# EAGLE library part BM12B-NSHSS-TBT (library NSH)
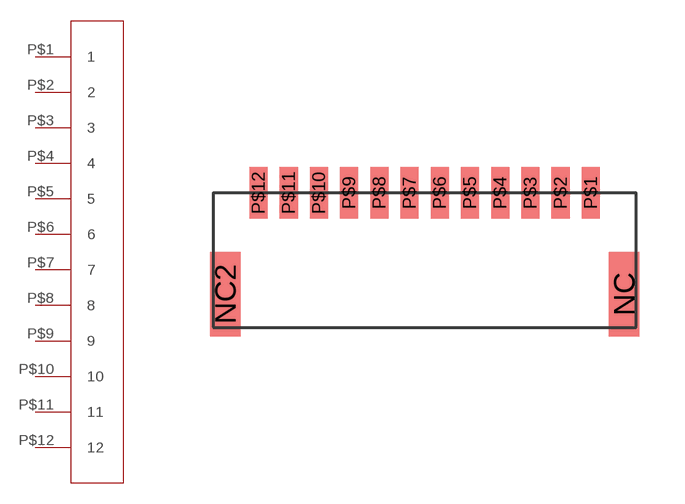
[diagram p6: symbol with the pads of BM12B-NSHSS-TBT; footprint BM12B-NSHSS-TBT]

Designator prefix -

## BM12B-NSHSS-TBT  [BM12B-NSHSS-TBT]
P$1  1
P$2  2
P$3  3
P$4  4
P$5  5
P$6  6
P$7  7
P$8  8
P$9  9
P$10  10
P$11  11
P$12  12

## Footprint BM12B-NSHSS-TBT (pad centres in mm)
smd 1 x 2.8: NC 6.6,1.4; NC2 -6.6,1.4
smd 0.6 x 1.7: P$1 5.5,4.75; P$2 4.5,4.75; P$3 3.5,4.75; P$4 2.5,4.75; P$5 1.5,4.75; P$6 0.5,4.75; P$7 -0.5,4.75; P$8 -1.5,4.75; P$9 -2.5,4.75; P$10 -3.5,4.75; P$11 -4.5,4.75; P$12 -5.5,4.75